# EAGLE library part MCP4151 (library HydraSpex)
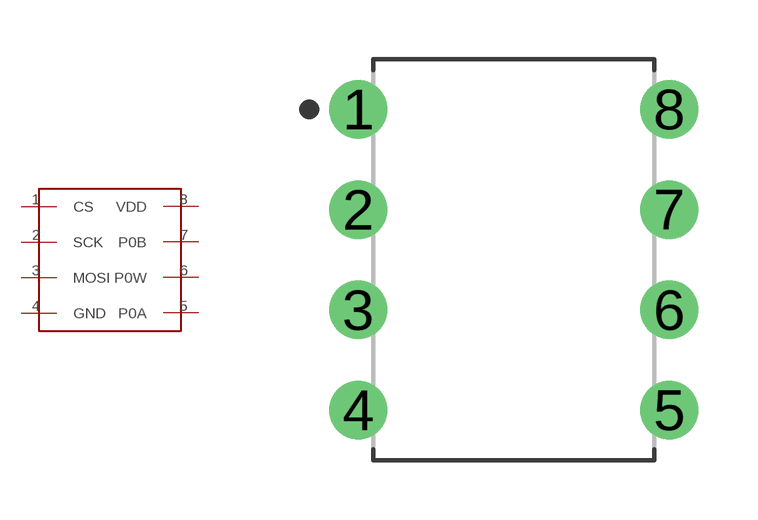
[diagram p5: symbol with the pads of DIP787W56P254L950H533Q8B; footprint DIP787W56P254L950H533Q8B]

Designator prefix -

## MCP4151MCP4151  [DIP787W56P254L950H533Q8B]
1  CS
2  SCK
3  MOSI
4  GND
5  P0A
6  P0W
7  P0B
8  VDD

## Footprint DIP787W56P254L950H533Q8B (pad centres in mm)
8-DIP, 2.54 mm (0.10 in) pitch, 7.87 mm (0.31 in) span, 9.50 X 6.61 X 5.33 mm body 8-pin DIP package with 2.54 mm (0.10 in) pitch, 7.87 mm (0.31 in) span with body size 9.50 X 6.61 X 5.33 mm
drill 0.877 pad 1.477: 1 -3.935,3.81; 2 -3.935,1.27; 3 -3.935,-1.27; 4 -3.935,-3.81; 5 3.935,-3.81; 6 3.935,-1.27; 7 3.935,1.27; 8 3.935,3.81